# Altium schematic symbol library Resistor4_7kOhm.SchLib: 1 symbol
Pins are listed as number, name and electrical type; pins without a type are passive.

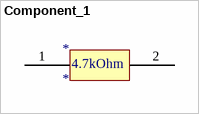
[diagram p0: symbol Component_1]

## Component_1
designator *
pins: 1 (power), 2 (power)
text: 4.7kOhm